# Altium footprint library ANALOG_LIB.PcbLib: 3 footprints
Each footprint in its own frame and in the unit in brackets; x right, y up, seen from the top. Pads: shape width x height; smd on the part's side, far side on the other; paste and mask are expansions set on the pad; w line width, h text height; cw(c..) or ccw(c..) is an arc to the next point about the centre after c.
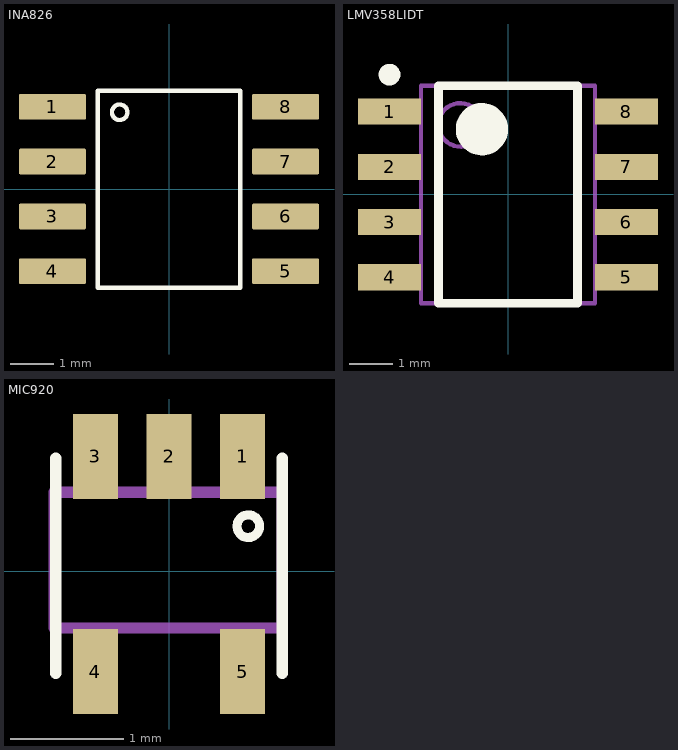
[diagram p0: the footprints below, top view; thin cyan lines are the x and y axes]

## INA826 [mm]
pads (8):
  rrect12% 1.55x0.6 smd: 1(-2.7,1.905) 2(-2.7,0.635) 3(-2.7,-0.635) 4(-2.7,-1.905) 5(2.7,-1.905) 6(2.7,-0.635) 7(2.7,0.635) 8(2.7,1.905)
Top Overlay:
  circle w0.1: c-1.143,1.778 r0.18
  lines w0.1: -1.651,-2.286 1.651,-2.286 1.651,2.278 -1.651,2.278 -1.651,-2.286

## LMV358LIDT [mm] "SOIC, 8-Leads, Body 4.90x3.90mm, Pitch 1.27mm, IPC Medium Density"
height 1.75
pads (8):
  rect 1.45x0.6 smd: 1(-2.725,1.905) 2(-2.725,0.635) 3(-2.725,-0.635) 4(-2.725,-1.905) 5(2.725,-1.905) 6(2.725,-0.635) 7(2.725,0.635) 8(2.725,1.905)
Top Overlay:
  circle w0.25: c-2.725,2.755 r0.125
  circle w0.6: c-0.6,1.5 r0.3
  lines w0.2: -1.6,-2.5 -1.6,2.5 1.6,2.5 1.6,-2.5 -1.6,-2.5
Mechanical 13:
  circle w0.1: c-1.1,1.6 r0.5
  lines w0.1: -2,-2.5 -2,2.5 2,2.5 2,-2.5 -2,-2.5
3D body: height 1.75, standoff 0.1, extent -2,-2.5 2,2.5

## MIC920 [mm] "General Purpose Amplifier 1 Circuit SC-70-5"
height 0.9
pads (5):
  rect 0.4x0.75 smd mask+0.05: 1(0.65,1.016) 2(0,1.016) 3(-0.65,1.016) 4(-0.65,-0.884) 5(0.65,-0.884)
Top Overlay:
  circle w0.08: c0.7,0.4 r0.1
  lines w0.1: -1,-0.9 -1,1 ; 1,-0.9 1,1
Mechanical 15:
  lines w0.1: -1.016,0.7 -1.016,-0.5 1,-0.5 1,0.7 -1,0.7